# EAGLE library part FSA2258 (library bschulz)
FSA2258 - Low Voltage, Dual SPDT Analog Switch Characteristics: VCC: 1.65~4.3V On state resistace: 0.8 Ω, Max Channel to Channel Matching: 0.2 Ω, Typical Operating Temperature: -40°C to 85°C Digikey: FSA2258L10XCT-ND <https://www.digikey.com/en/products/detail/onsemi/FSA2258L10X/2115881>
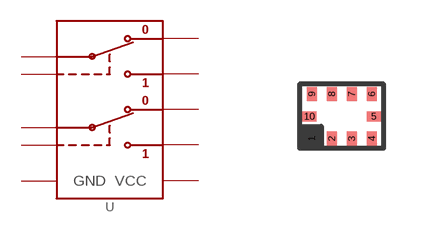
[diagram p164: symbol with the pads of MICROPAK_10; footprint MICROPAK_10]

Designator prefix U

## FSA2258 (DIGIKEY: FSA2258L10XCT-ND; DISP: FSA2258; MF: OnSemi; MPN: FSA2258L10X)  [MICROPAK_10]
1  1B0
2  1B1
3  2B0
4  2B1
5  GND  pwr
6  2A
7  S2  in
8  S1  in
9  1A
10  VCC  pwr

## Footprint MICROPAK_10 (pad centres in mm)
MicroPak, 10 pos, 0.5mm pitch, 1.6x2.1mm body Datasheet <https://www.onsemi.com/pdf/datasheet/fsa2258-d.pdf>
smd 0.25 x 0.35: 1 -0.75,-0.56; 2 -0.25,-0.56; 3 0.25,-0.56; 4 0.75,-0.56; 6 0.75,0.56; 7 0.25,0.56; 8 -0.25,0.56; 9 -0.75,0.56
smd 0.35 x 0.25: 5 0.81,0; 10 -0.81,0